# EAGLE library part CH32V307VCT6 (library _mtvl_ic)
CH32V307VCT6 / WCH MCU RISC-V; Flash 256 KБ; RAM 64 КБ; 144 MГц; 2.5...3.3 В; LQFP100
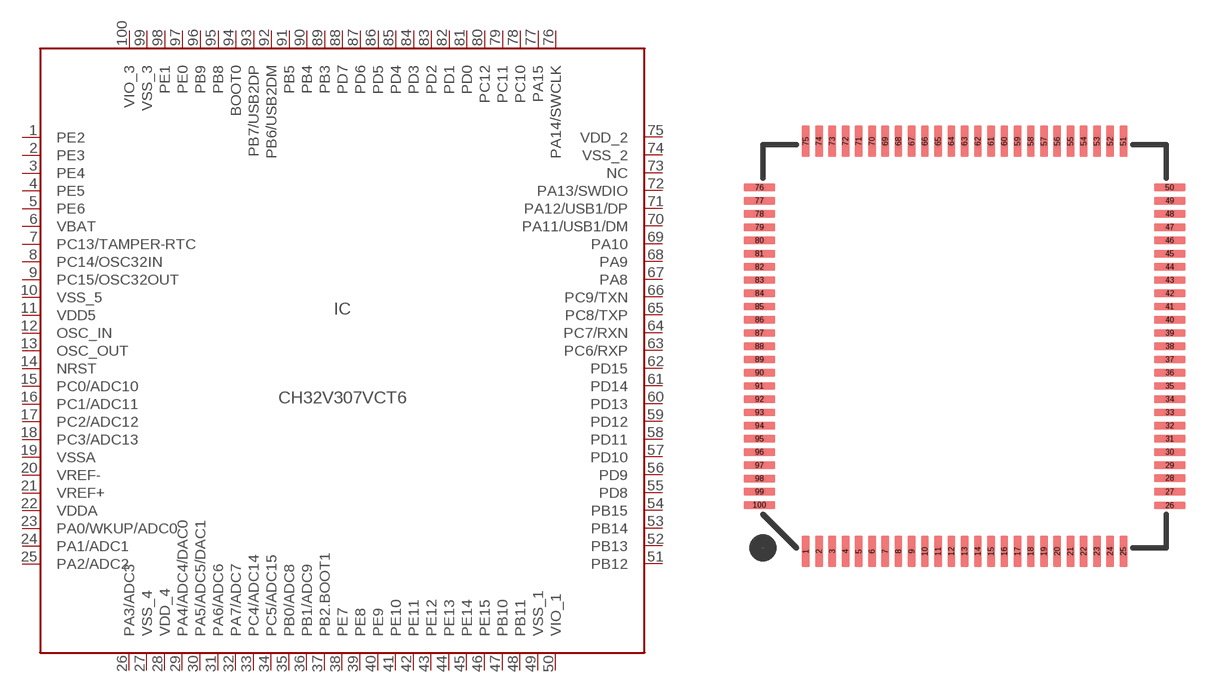
[diagram p64: symbol with the pads of LQFP-100; footprint LQFP-100]

Designator prefix IC

## CH32V307VCT6  [LQFP-100]
1  PE2
2  PE3
3  PE4
4  PE5
5  PE6
6  VBAT  sup
7  PC13/TAMPER-RTC
8  PC14/OSC32IN
9  PC15/OSC32OUT
10  VSS_5  sup
11  VDD5  sup
12  OSC_IN
13  OSC_OUT
14  NRST
15  PC0/ADC10
16  PC1/ADC11
17  PC2/ADC12
18  PC3/ADC13
19  VSSA  sup
20  VREF-  sup
21  VREF+  sup
22  VDDA  sup
23  PA0/WKUP/ADC0
24  PA1/ADC1
25  PA2/ADC2
26  PA3/ADC3
27  VSS_4  sup
28  VDD_4  sup
29  PA4/ADC4/DAC0
30  PA5/ADC5/DAC1
31  PA6/ADC6
32  PA7/ADC7
33  PC4/ADC14
34  PC5/ADC15
35  PB0/ADC8
36  PB1/ADC9
37  PB2.BOOT1
38  PE7
39  PE8
40  PE9
41  PE10
42  PE11
43  PE12
44  PE13
45  PE14
46  PE15
47  PB10
48  PB11
49  VSS_1  sup
50  VIO_1  sup
51  PB12
52  PB13
53  PB14
54  PB15
55  PD8
56  PD9
57  PD10
58  PD11
59  PD12
60  PD13
61  PD14
62  PD15
63  PC6/RXP
64  PC7/RXN
65  PC8/TXP
66  PC9/TXN
67  PA8
68  PA9
69  PA10
70  PA11/USB1/DM
71  PA12/USB1/DP
72  PA13/SWDIO
73  NC  nc
74  VSS_2  sup
75  VDD_2  sup
76  PA14/SWCLK
77  PA15
78  PC10
79  PC11
80  PC12
81  PD0
82  PD1
83  PD2
84  PD3
85  PD4
86  PD5
87  PD6
88  PD7
89  PB3
90  PB4
91  PB5
92  PB6/USB2DM
93  PB7/USB2DP
94  BOOT0
95  PB8
96  PB9
97  PE0
98  PE1
99  VSS_3  sup
100  VIO_3  sup

## Footprint LQFP-100 (pad centres in mm)
LQFP-100
smd 0.3 x 1.2: 1 -6,-7.75; 2 -5.5,-7.75; 3 -5,-7.75; 4 -4.5,-7.75; 5 -4,-7.75; 6 -3.5,-7.75; 7 -3,-7.75; 8 -2.5,-7.75; 9 -2,-7.75; 10 -1.5,-7.75; 11 -1,-7.75; 12 -0.5,-7.75; 13 0,-7.75; 14 0.5,-7.75; 15 1,-7.75; 16 1.5,-7.75; 17 2,-7.75; 18 2.5,-7.75; 19 3,-7.75; 20 3.5,-7.75; 21 4,-7.75; 22 4.5,-7.75; 23 5,-7.75; 24 5.5,-7.75; 25 6,-7.75; 51 6,7.75; 52 5.5,7.75; 53 5,7.75; 54 4.5,7.75; 55 4,7.75; 56 3.5,7.75; 57 3,7.75; 58 2.5,7.75; 59 2,7.75; 60 1.5,7.75; 61 1,7.75; 62 0.5,7.75; 63 0,7.75; 64 -0.5,7.75; 65 -1,7.75; 66 -1.5,7.75; 67 -2,7.75; 68 -2.5,7.75; 69 -3,7.75; 70 -3.5,7.75; 71 -4,7.75; 72 -4.5,7.75; 73 -5,7.75; 74 -5.5,7.75; 75 -6,7.75
smd 1.2 x 0.3: 26 7.75,-6.016; 27 7.75,-5.5; 28 7.75,-4.984; 29 7.75,-4.5; 30 7.75,-4; 31 7.75,-3.5; 32 7.75,-3; 33 7.75,-2.5; 34 7.75,-2; 35 7.75,-1.5; 36 7.75,-1; 37 7.75,-0.5; 38 7.75,0; 39 7.75,0.5; 40 7.75,1; 41 7.75,1.5; 42 7.75,2; 43 7.75,2.5; 44 7.75,3; 45 7.75,3.5; 46 7.75,4; 47 7.75,4.5; 48 7.75,5; 49 7.75,5.5; 50 7.75,6; 76 -7.75,6; 77 -7.75,5.5; 78 -7.75,5; 79 -7.75,4.5; 80 -7.75,4; 81 -7.75,3.5; 82 -7.75,3; 83 -7.75,2.5; 84 -7.75,2; 85 -7.75,1.5; 86 -7.75,1; 87 -7.75,0.5; 88 -7.75,0; 89 -7.75,-0.5; 90 -7.75,-1; 91 -7.75,-1.5; 92 -7.75,-2; 93 -7.75,-2.5; 94 -7.75,-3; 95 -7.75,-3.5; 96 -7.75,-4; 97 -7.75,-4.5; 98 -7.75,-5; 99 -7.75,-5.5; 100 -7.75,-6